# EAGLE library part G2RL-1-E (library Relay)
CONTACT TYPE : SPDT COIL RATING : 5 to 48 VDC Datasheet <https://omronfs.omron.com/en_US/ecb/products/pdf/en-g2rl.pdf>
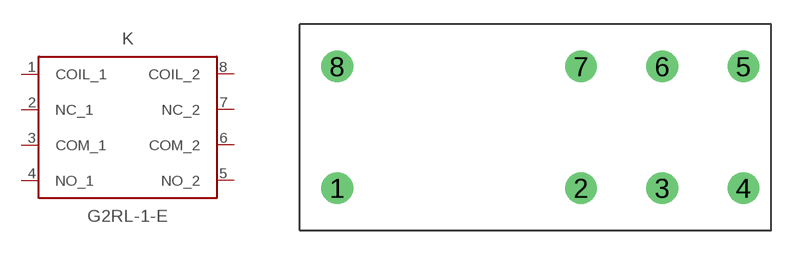
[diagram p4: symbol with the pads of G2RL-1-E; footprint G2RL-1-E]

Designator prefix K

## G2RL-1-E (CATEGORY: RELAY; MANUFACTURER: OMRON; OPERATING_TEMP: 40°C to 85°C; PART_STATUS: ACTIVE; ROHS_COMPLIANCE: ROHS_COMPLIANT; SERIES: G2RL; SUB-CATEGORY: Power Relay; TYPE: SPDT; VALUE: G2RL), G2RL-1-E-ASI (CATEGORY: RELAY; MANUFACTURER: OMRON; OPERATING_TEMP: 40°C to 85°C; PART_STATUS: ACTIVE; ROHS_COMPLIANCE: ROHS_COMPLIANT; SERIES: G2RL; SUB-CATEGORY: Power Relay; TYPE: SPDT; VALUE: G2RL), G2RL-1-E-E (CATEGORY: RELAY; MANUFACTURER: OMRON; OPERATING_TEMP: 40°C to 85°C; PART_STATUS: ACTIVE; ROHS_COMPLIANCE: ROHS_COMPLIANT; SERIES: G2RL; SUB-CATEGORY: Power Relay; TYPE: SPDT; VALUE: G2RL), G2RL-1-E-HA (CATEGORY: RELAY; MANUFACTURER: OMRON; OPERATING_TEMP: 40°C to 85°C; PART_STATUS: ACTIVE; ROHS_COMPLIANCE: ROHS_COMPLIANT; SERIES: G2RL; SUB-CATEGORY: Power Relay; TYPE: SPDT; VALUE: G2RL), G2RL-1-E-PW (CATEGORY: RELAY; MANUFACTURER: OMRON; OPERATING_TEMP: 40°C to 85°C; PART_STATUS: ACTIVE; ROHS_COMPLIANCE: ROHS_COMPLIANT; SERIES: G2RL; SUB-CATEGORY: Power Relay; TYPE: SPDT; VALUE: G2RL)  [G2RL-1-E]
1  COIL_1
2  NC_1
3  COM_1
4  NO_1
5  NO_2
6  COM_2
7  NC_2
8  COIL_2

## Footprint G2RL-1-E (pad centres in mm)
drill 1.3: 1 0,0; 2 15,0; 3 20,0; 4 25,0; 5 25,7.5; 6 20,7.5; 7 15,7.5; 8 0,7.5